# EAGLE library part DF13-5 (library Taylor)
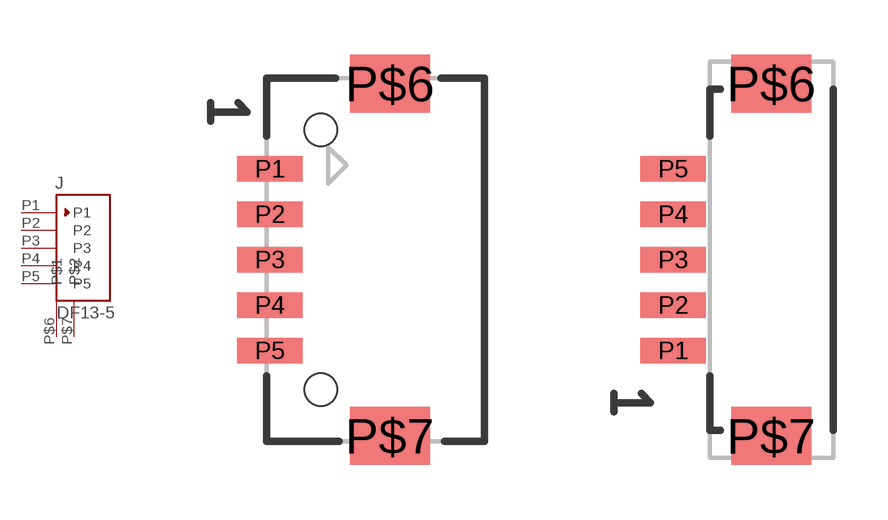
[diagram p4: symbol with the pads of DF13-5; footprints DF13-5, DF13-5-VERT]

Designator prefix J

## DF13-5HORIZONTAL  [DF13-5]
P1  P1
P2  P2
P3  P3
P4  P4
P5  P5
P$6  P$1
P$7  P$2

## DF13-5VERTICAL  [DF13-5-VERT]
Pads as for DF13-5

## Footprint DF13-5 (pad centres in mm)
smd 1.8 x 0.7: P1 -0.9,2.5; P2 -0.9,1.25; P3 -0.9,0; P4 -0.9,-1.25; P5 -0.9,-2.5
smd 2.2 x 1.6: P$6 2.4,4.85; P$7 2.4,-4.85
hole 0.9 at 0.5,3.575
hole 0.9 at 0.5,-3.575

## Footprint DF13-5-VERT (pad centres in mm)
smd 1.8 x 0.7: P1 -0.9,-2.5; P2 -0.9,-1.25; P3 -0.9,0; P4 -0.9,1.25; P5 -0.9,2.5
smd 2.2 x 1.6: P$6 1.8,4.85; P$7 1.8,-4.85